# Altium footprint library 13F-64.PcbLib: 1 footprints
Each footprint in its own frame and in the unit in brackets; x right, y up, seen from the top. Pads: shape width x height; smd on the part's side, far side on the other; paste and mask are expansions set on the pad; w line width, h text height; cw(c..) or ccw(c..) is an arc to the next point about the centre after c.
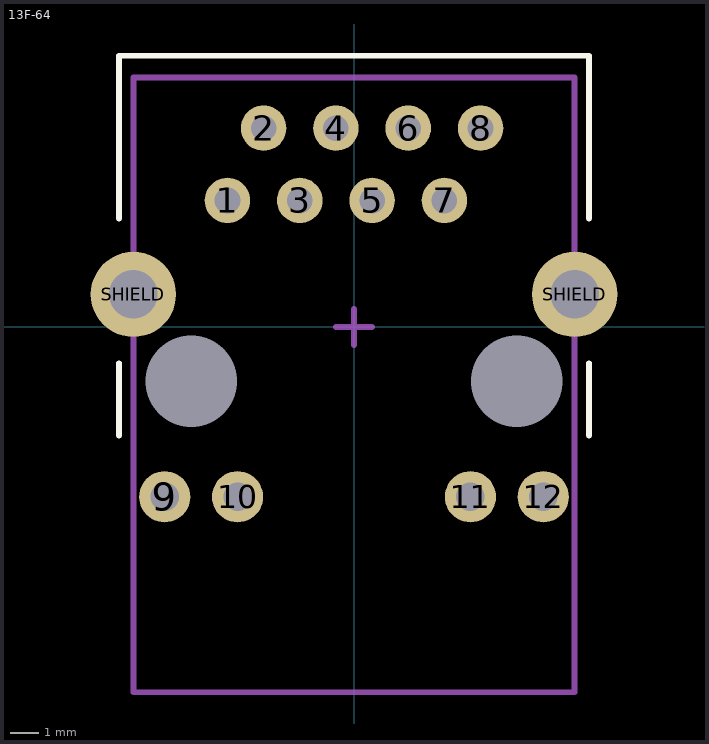
[diagram p0: the footprint, top view; thin cyan lines are the x and y axes]

## 13F-64 [mm]
pads (16):
  round 1.6 hole 0.9: 1(-4.445,4.445) 2(-3.175,6.985) 3(-1.905,4.445) 4(-0.635,6.985) 5(0.635,4.445) 6(1.905,6.985) 7(3.175,4.445) 8(4.445,6.985)
  round 1.8 hole 1: 9(-6.65,-5.965) 10(-4.09,-5.965) 11(4.09,-5.965) 12(6.65,-5.965)
  round 0 hole 3.2 unplated: MH(-5.715,-1.905) MH(5.715,-1.905)
  round 3 hole 1.7: SHIELD(-7.75,1.145) SHIELD(7.75,1.145)
Top Overlay:
  lines w0.2: -8.255,-3.81 -8.255,-1.27 ; -8.255,3.81 -8.255,9.525 8.255,9.525 8.255,3.81 ; 8.255,-3.81 8.255,-1.27
Mechanical 13:
  lines w0.2: -7.747,-12.827 -7.747,8.763 7.747,8.763 7.747,-12.827 -7.747,-12.827
  text ".Designator" at -4.445,0.508 h2.5
Mechanical 15:
  lines w0.2: -0.635,0 0.635,0 ; 0,-0.635 0,0.635